# EAGLE library part XC2C256-7FTG256C (library CPLD)
IC CPLD 256MC 6.7NS 256BGA Manufacturer's datasheet <https://www.xilinx.com/support/documentation/data_sheets/ds094.pdf>
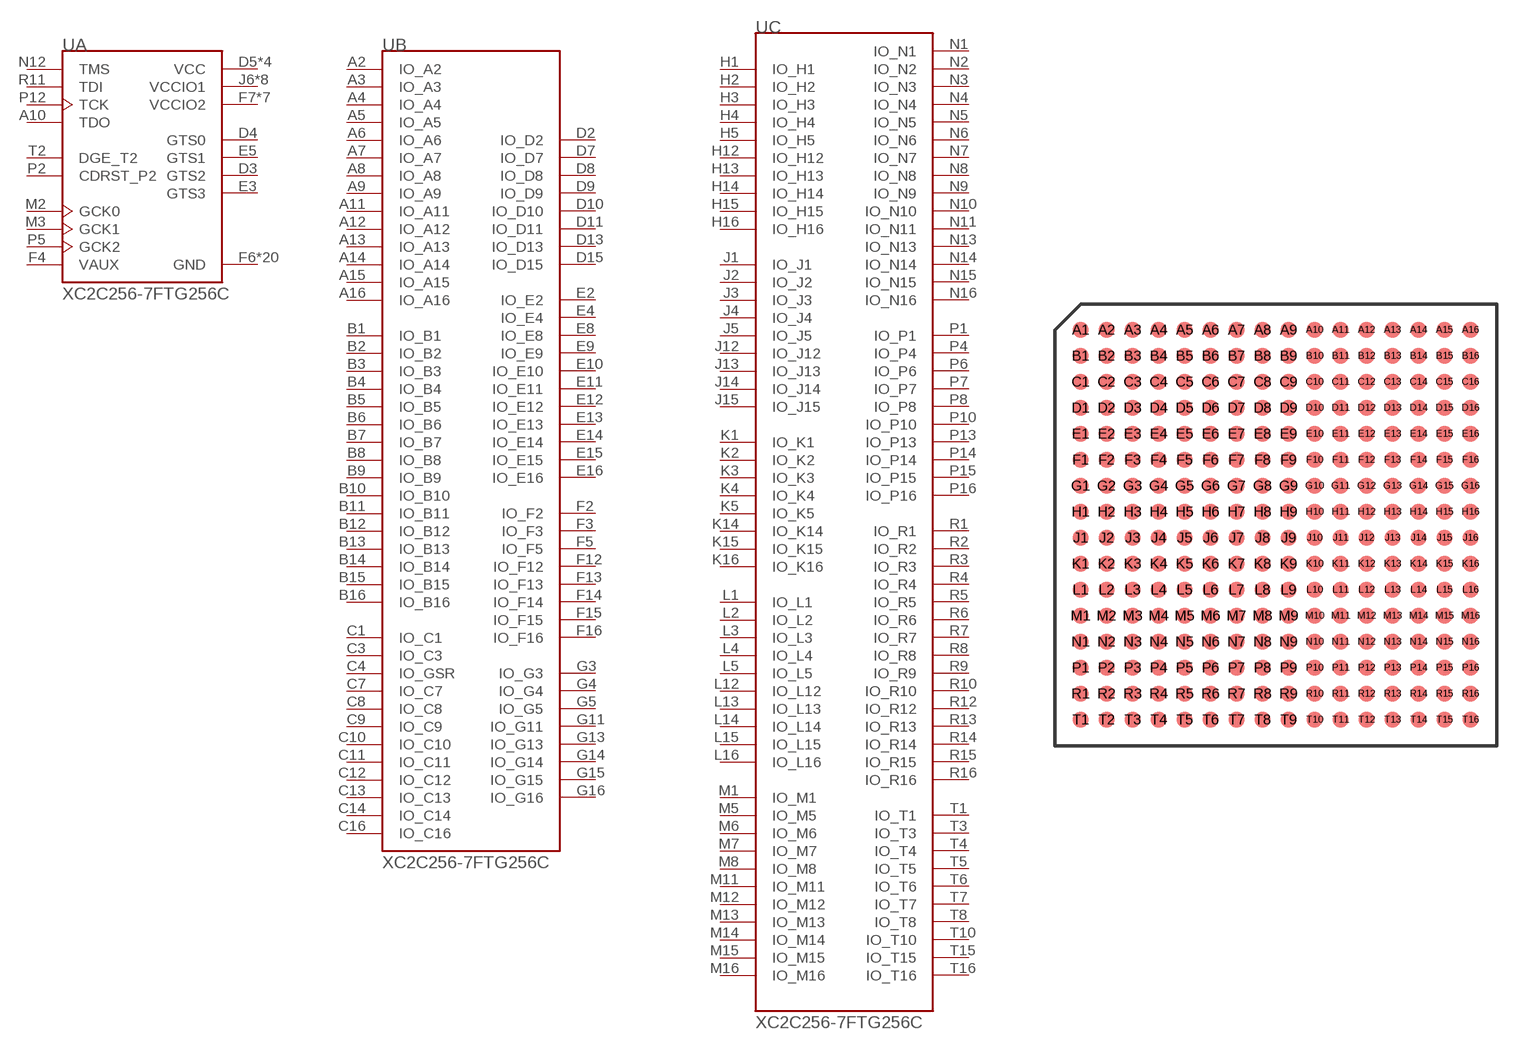
[diagram p11: symbol with the pads of FT256; footprint FT256]

Designator prefix U; gates A=XC2C256-7FTG256C_1 B=XC2C256-7FTG256C_2 C=XC2C256-7FTG256C_3

## XC2C256-7FTG256C (CREATED_BY: PCBLayout.com; DIGIKEY_PARTNO: 122-1400-ND; MANUFACTURER: Xilinx Inc.; MPN: XC2C256-7FTG256C; PACKAGE: BGA-256)  [FT256]
A2  B:IO_A2
A3  B:IO_A3
A4  B:IO_A4
A5  B:IO_A5
A6  B:IO_A6
A7  B:IO_A7
A8  B:IO_A8
A9  B:IO_A9
A10  A:TDO  out
A11  B:IO_A11
A12  B:IO_A12
A13  B:IO_A13
A14  B:IO_A14
A15  B:IO_A15
A16  B:IO_A16
B1  B:IO_B1
B2  B:IO_B2
B3  B:IO_B3
B4  B:IO_B4
B5  B:IO_B5
B6  B:IO_B6
B7  B:IO_B7
B8  B:IO_B8
B9  B:IO_B9
B10  B:IO_B10
B11  B:IO_B11
B12  B:IO_B12
B13  B:IO_B13
B14  B:IO_B14
B15  B:IO_B15
B16  B:IO_B16
C1  B:IO_C1
C3  B:IO_C3
C4  B:IO_GSR
C7  B:IO_C7
C8  B:IO_C8
C9  B:IO_C9
C10  B:IO_C10
C11  B:IO_C11
C12  B:IO_C12
C13  B:IO_C13
C14  B:IO_C14
C16  B:IO_C16
D2  B:IO_D2
D3  A:GTS2  out
D4  A:GTS0  out
D5  A:VCC  pwr
D7  B:IO_D7
D8  B:IO_D8
D9  B:IO_D9
D10  B:IO_D10
D11  B:IO_D11
D12  A:VCC  pwr
D13  B:IO_D13
D15  B:IO_D15
E2  B:IO_E2
E3  A:GTS3  out
E4  B:IO_E4
E5  A:GTS1  out
E8  B:IO_E8
E9  B:IO_E9
E10  B:IO_E10
E11  B:IO_E11
E12  B:IO_E12
E13  B:IO_E13
E14  B:IO_E14
E15  B:IO_E15
E16  B:IO_E16
F2  B:IO_F2
F3  B:IO_F3
F4  A:VAUX  pas
F5  B:IO_F5
F6  A:GND  pwr
F7  A:VCCIO2  pwr
F8  A:VCCIO2  pwr
F9  A:VCCIO2  pwr
F10  A:VCCIO2  pwr
F11  A:GND  pwr
F12  B:IO_F12
F13  B:IO_F13
F14  B:IO_F14
F15  B:IO_F15
F16  B:IO_F16
G3  B:IO_G3
G4  B:IO_G4
G5  B:IO_G5
G6  A:VCCIO2  pwr
G7  A:GND  pwr
G8  A:GND  pwr
G9  A:GND  pwr
G10  A:GND  pwr
G11  B:IO_G11
G13  B:IO_G13
G14  B:IO_G14
G15  B:IO_G15
G16  B:IO_G16
H1  C:IO_H1
H2  C:IO_H2
H3  C:IO_H3
H4  C:IO_H4
H5  C:IO_H5
H6  A:VCCIO2  pwr
H7  A:GND  pwr
H8  A:GND  pwr
H9  A:GND  pwr
H10  A:GND  pwr
H11  A:VCCIO2  pwr
H12  C:IO_H12
H13  C:IO_H13
H14  C:IO_H14
H15  C:IO_H15
H16  C:IO_H16
J1  C:IO_J1
J2  C:IO_J2
J3  C:IO_J3
J4  C:IO_J4
J5  C:IO_J5
J6  A:VCCIO1  pwr
J7  A:GND  pwr
J8  A:GND  pwr
J9  A:GND  pwr
J10  A:GND  pwr
J11  A:VCCIO1  pwr
J12  C:IO_J12
J13  C:IO_J13
J14  C:IO_J14
J15  C:IO_J15
K1  C:IO_K1
K2  C:IO_K2
K3  C:IO_K3
K4  C:IO_K4
K5  C:IO_K5
K6  A:VCCIO1  pwr
K7  A:GND  pwr
K8  A:GND  pwr
K9  A:GND  pwr
K10  A:GND  pwr
K11  A:VCCIO1  pwr
K13  A:VCC  pwr
K14  C:IO_K14
K15  C:IO_K15
K16  C:IO_K16
L1  C:IO_L1
L2  C:IO_L2
L3  C:IO_L3
L4  C:IO_L4
L5  C:IO_L5
L6  A:GND  pwr
L7  A:VCCIO1  pwr
L8  A:VCCIO1  pwr
L9  A:VCCIO1  pwr
L10  A:VCCIO1  pwr
L11  A:GND  pwr
L12  C:IO_L12
L13  C:IO_L13
L14  C:IO_L14
L15  C:IO_L15
L16  C:IO_L16
M1  C:IO_M1
M2  A:GCK0  in
M3  A:GCK1  in
M5  C:IO_M5
M6  C:IO_M6
M7  C:IO_M7
M8  C:IO_M8
M11  C:IO_M11
M12  C:IO_M12
M13  C:IO_M13
M14  C:IO_M14
M15  C:IO_M15
M16  C:IO_M16
N1  C:IO_N1
N2  C:IO_N2
N3  C:IO_N3
N4  C:IO_N4
N5  C:IO_N5
N6  C:IO_N6
N7  C:IO_N7
N8  C:IO_N8
N9  C:IO_N9
N10  C:IO_N10
N11  C:IO_N11
N12  A:TMS  in
N13  C:IO_N13
N14  C:IO_N14
N15  C:IO_N15
N16  C:IO_N16
P1  C:IO_P1
P2  A:CDRST_P2
P3  A:VCC  pwr
P4  C:IO_P4
P5  A:GCK2  in
P6  C:IO_P6
P7  C:IO_P7
P8  C:IO_P8
P10  C:IO_P10
P12  A:TCK
P13  C:IO_P13
P14  C:IO_P14
P15  C:IO_P15
P16  C:IO_P16
R1  C:IO_R1
R2  C:IO_R2
R3  C:IO_R3
R4  C:IO_R4
R5  C:IO_R5
R6  C:IO_R6
R7  C:IO_R7
R8  C:IO_R8
R9  C:IO_R9
R10  C:IO_R10
R11  A:TDI  in
R12  C:IO_R12
R13  C:IO_R13
R14  C:IO_R14
R15  C:IO_R15
R16  C:IO_R16
T1  C:IO_T1
T2  A:DGE_T2  in
T3  C:IO_T3
T4  C:IO_T4
T5  C:IO_T5
T6  C:IO_T6
T7  C:IO_T7
T8  C:IO_T8
T10  C:IO_T10
T15  C:IO_T15
T16  C:IO_T16

## Footprint FT256 (pad centres in mm)
Fine Pitch BGA (FG256) Auto generated by make-symbol-device-package-bsdl.ulp Rev. 26 Source: xcv100_fg256.bsd; fg256.pdf
smd 0.6 x 0.6: A1 -7.5,7.5; A2 -6.5,7.5; A3 -5.5,7.5; A4 -4.5,7.5; A5 -3.5,7.5; A6 -2.5,7.5; A7 -1.5,7.5; A8 -0.5,7.5; A9 0.5,7.5; A10 1.5,7.5; A11 2.5,7.5; A12 3.5,7.5; A13 4.5,7.5; A14 5.5,7.5; A15 6.5,7.5; A16 7.5,7.5; B1 -7.5,6.5; B2 -6.5,6.5; B3 -5.5,6.5; B4 -4.5,6.5; B5 -3.5,6.5; B6 -2.5,6.5; B7 -1.5,6.5; B8 -0.5,6.5; B9 0.5,6.5; B10 1.5,6.5; B11 2.5,6.5; B12 3.5,6.5; B13 4.5,6.5; B14 5.5,6.5; B15 6.5,6.5; B16 7.5,6.5; C1 -7.5,5.5; C2 -6.5,5.5; C3 -5.5,5.5; C4 -4.5,5.5; C5 -3.5,5.5; C6 -2.5,5.5; C7 -1.5,5.5; C8 -0.5,5.5; C9 0.5,5.5; C10 1.5,5.5; C11 2.5,5.5; C12 3.5,5.5; C13 4.5,5.5; C14 5.5,5.5; C15 6.5,5.5; C16 7.5,5.5; D1 -7.5,4.5; D2 -6.5,4.5; D3 -5.5,4.5; D4 -4.5,4.5; D5 -3.5,4.5; D6 -2.5,4.5; D7 -1.5,4.5; D8 -0.5,4.5; D9 0.5,4.5; D10 1.5,4.5; D11 2.5,4.5; D12 3.5,4.5; D13 4.5,4.5; D14 5.5,4.5; D15 6.5,4.5; D16 7.5,4.5; E1 -7.5,3.5; E2 -6.5,3.5; E3 -5.5,3.5; E4 -4.5,3.5; E5 -3.5,3.5; E6 -2.5,3.5; E7 -1.5,3.5; E8 -0.5,3.5; E9 0.5,3.5; E10 1.5,3.5; E11 2.5,3.5; E12 3.5,3.5; E13 4.5,3.5; E14 5.5,3.5; E15 6.5,3.5; E16 7.5,3.5; F1 -7.5,2.5; F2 -6.5,2.5; F3 -5.5,2.5; F4 -4.5,2.5; F5 -3.5,2.5; F6 -2.5,2.5; F7 -1.5,2.5; F8 -0.5,2.5; F9 0.5,2.5; F10 1.5,2.5; F11 2.5,2.5; F12 3.5,2.5; F13 4.5,2.5; F14 5.5,2.5; F15 6.5,2.5; F16 7.5,2.5; G1 -7.5,1.5; G2 -6.5,1.5; G3 -5.5,1.5; G4 -4.5,1.5; G5 -3.5,1.5; G6 -2.5,1.5; G7 -1.5,1.5; G8 -0.5,1.5; G9 0.5,1.5; G10 1.5,1.5; G11 2.5,1.5; G12 3.5,1.5; G13 4.5,1.5; G14 5.5,1.5; G15 6.5,1.5; G16 7.5,1.5; H1 -7.5,0.5; H2 -6.5,0.5; H3 -5.5,0.5; H4 -4.5,0.5; H5 -3.5,0.5; H6 -2.5,0.5; H7 -1.5,0.5; H8 -0.5,0.5; H9 0.5,0.5; H10 1.5,0.5; H11 2.5,0.5; H12 3.5,0.5; H13 4.5,0.5; H14 5.5,0.5; H15 6.5,0.5; H16 7.5,0.5; J1 -7.5,-0.5; J2 -6.5,-0.5; J3 -5.5,-0.5; J4 -4.5,-0.5; J5 -3.5,-0.5; J6 -2.5,-0.5; J7 -1.5,-0.5; J8 -0.5,-0.5; J9 0.5,-0.5; J10 1.5,-0.5; J11 2.5,-0.5; J12 3.5,-0.5; J13 4.5,-0.5; J14 5.5,-0.5; J15 6.5,-0.5; J16 7.5,-0.5; K1 -7.5,-1.5; K2 -6.5,-1.5; K3 -5.5,-1.5; K4 -4.5,-1.5; K5 -3.5,-1.5; K6 -2.5,-1.5; K7 -1.5,-1.5; K8 -0.5,-1.5; K9 0.5,-1.5; K10 1.5,-1.5; K11 2.5,-1.5; K12 3.5,-1.5; K13 4.5,-1.5; K14 5.5,-1.5; K15 6.5,-1.5; K16 7.5,-1.5; L1 -7.5,-2.5; L2 -6.5,-2.5; L3 -5.5,-2.5; L4 -4.5,-2.5; L5 -3.5,-2.5; L6 -2.5,-2.5; L7 -1.5,-2.5; L8 -0.5,-2.5; L9 0.5,-2.5; L10 1.5,-2.5; L11 2.5,-2.5; L12 3.5,-2.5; L13 4.5,-2.5; L14 5.5,-2.5; L15 6.5,-2.5; L16 7.5,-2.5; M1 -7.5,-3.5; M2 -6.5,-3.5; M3 -5.5,-3.5; M4 -4.5,-3.5; M5 -3.5,-3.5; M6 -2.5,-3.5; M7 -1.5,-3.5; M8 -0.5,-3.5; M9 0.5,-3.5; M10 1.5,-3.5; M11 2.5,-3.5; M12 3.5,-3.5; M13 4.5,-3.5; M14 5.5,-3.5; M15 6.5,-3.5; M16 7.5,-3.5; N1 -7.5,-4.5; N2 -6.5,-4.5; N3 -5.5,-4.5; N4 -4.5,-4.5; N5 -3.5,-4.5; N6 -2.5,-4.5; N7 -1.5,-4.5; N8 -0.5,-4.5; N9 0.5,-4.5; N10 1.5,-4.5; N11 2.5,-4.5; N12 3.5,-4.5; N13 4.5,-4.5; N14 5.5,-4.5; N15 6.5,-4.5; N16 7.5,-4.5; P1 -7.5,-5.5; P2 -6.5,-5.5; P3 -5.5,-5.5; P4 -4.5,-5.5; P5 -3.5,-5.5; P6 -2.5,-5.5; P7 -1.5,-5.5; P8 -0.5,-5.5; P9 0.5,-5.5; P10 1.5,-5.5; P11 2.5,-5.5; P12 3.5,-5.5; P13 4.5,-5.5; P14 5.5,-5.5; P15 6.5,-5.5; P16 7.5,-5.5; R1 -7.5,-6.5; R2 -6.5,-6.5; R3 -5.5,-6.5; R4 -4.5,-6.5; R5 -3.5,-6.5; R6 -2.5,-6.5; R7 -1.5,-6.5; R8 -0.5,-6.5; R9 0.5,-6.5; R10 1.5,-6.5; R11 2.5,-6.5; R12 3.5,-6.5; R13 4.5,-6.5; R14 5.5,-6.5; R15 6.5,-6.5; R16 7.5,-6.5; T1 -7.5,-7.5; T2 -6.5,-7.5; T3 -5.5,-7.5; T4 -4.5,-7.5; T5 -3.5,-7.5; T6 -2.5,-7.5; T7 -1.5,-7.5; T8 -0.5,-7.5; T9 0.5,-7.5; T10 1.5,-7.5; T11 2.5,-7.5; T12 3.5,-7.5; T13 4.5,-7.5; T14 5.5,-7.5; T15 6.5,-7.5; T16 7.5,-7.5